# Altium footprint library Components - 29.06.20 - 16.43.PcbLib: 2 footprints
Each footprint in its own frame and in the unit in brackets; x right, y up, seen from the top. Pads: shape width x height; smd on the part's side, far side on the other; paste and mask are expansions set on the pad; w line width, h text height; cw(c..) or ccw(c..) is an arc to the next point about the centre after c.
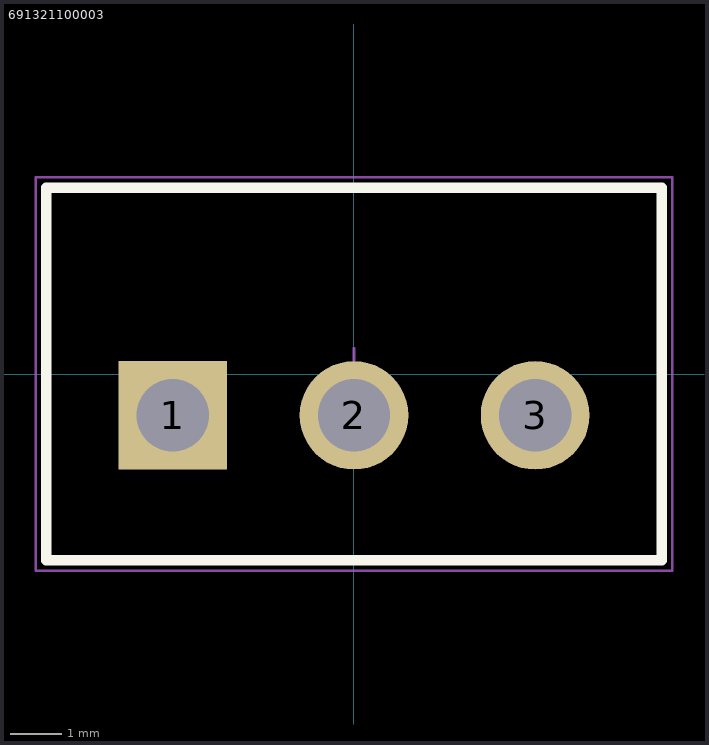
[diagram p0: the footprints below, top view; thin cyan lines are the x and y axes]

## 691321100003 [mm] "Vertical PCB Header, pitch 3.5mm, 03p"
height 9.2
pads (3):
  rect 2.1x2.1 hole 1.4: 1(-3.5,-0.8)
  round 2.1 hole 1.4: 2(0,-0.8) 3(3.5,-0.8)
Top Overlay:
  lines w0.2: -5.95,-3.6 -5.95,3.6 5.95,3.6 5.95,-3.6 -5.95,-3.6
Mechanical 13:
  lines w0.1: -5.95,-3.6 5.95,-3.6 5.95,3.6 -5.95,3.6 -5.95,-3.6
Mechanical 15:
  lines w0.05: -0.5,0 0.5,0 ; 0,-0.5 0,0.5 ; -6.15,-3.8 -6.15,3.8 6.15,3.8 6.15,-3.8 -6.15,-3.8
3D body "691321100003.stp": height 9.3, standoff -3.4, extent -5.95,-3.6 5.95,3.6

## PCBComponent_1 [mm]